# EAGLE library part ECOG1K (library untitled)
eCOG1k microcrontroller van Cyan 16 bit
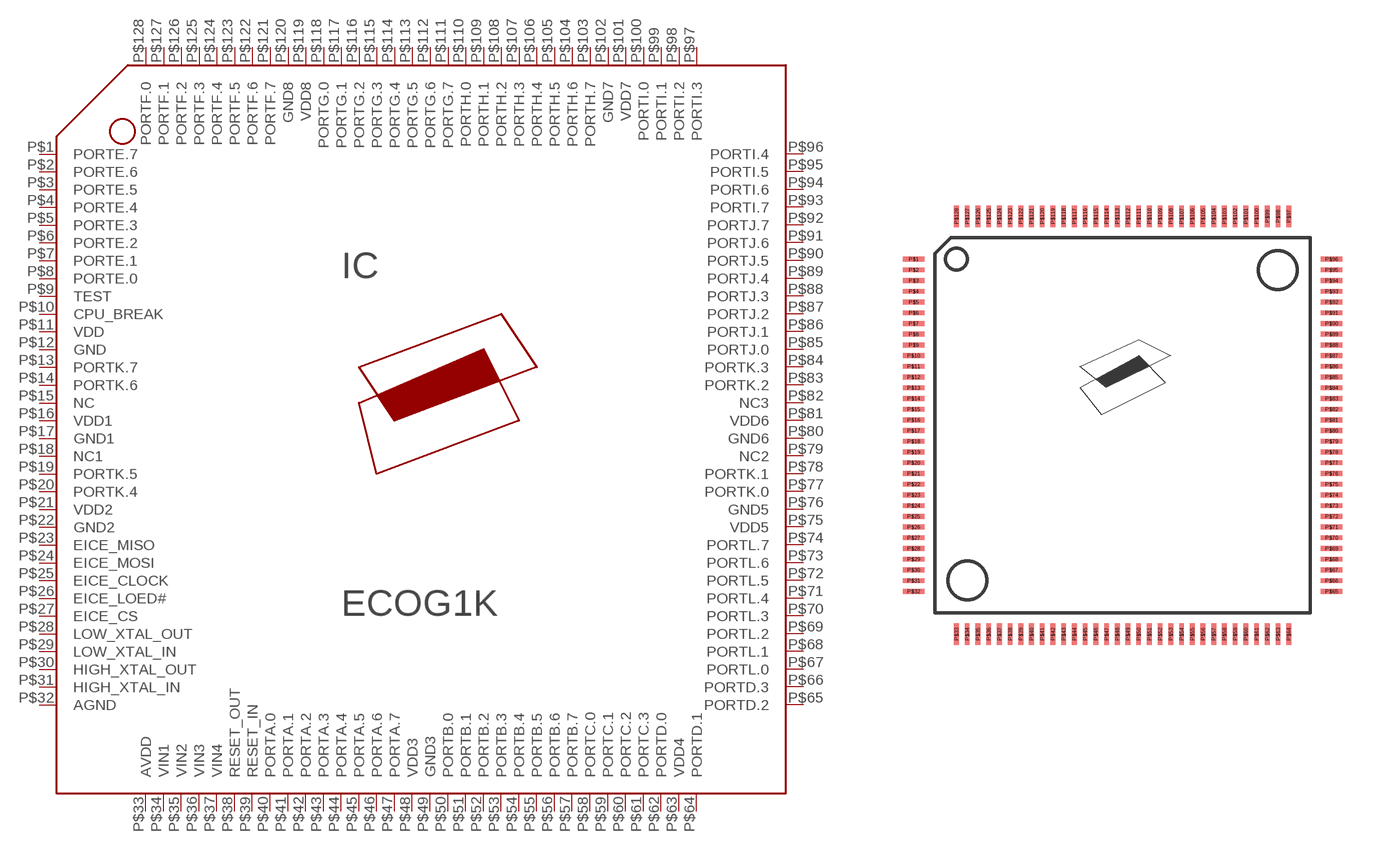
[diagram p0: symbol with the pads of ECOG1K; footprint ECOG1K]

Designator prefix IC

## ECOG1K  [ECOG1K]
P$1  PORTE.7
P$2  PORTE.6
P$3  PORTE.5
P$4  PORTE.4
P$5  PORTE.3
P$6  PORTE.2
P$7  PORTE.1
P$8  PORTE.0
P$9  TEST
P$10  CPU_BREAK
P$11  VDD
P$12  GND
P$13  PORTK.7
P$14  PORTK.6
P$15  NC
P$16  VDD1
P$17  GND1
P$18  NC1
P$19  PORTK.5
P$20  PORTK.4
P$21  VDD2
P$22  GND2
P$23  EICE_MISO
P$24  EICE_MOSI
P$25  EICE_CLOCK
P$26  EICE_LOED#
P$27  EICE_CS
P$28  LOW_XTAL_OUT
P$29  LOW_XTAL_IN
P$30  HIGH_XTAL_OUT
P$31  HIGH_XTAL_IN
P$32  AGND
P$33  AVDD
P$34  VIN1
P$35  VIN2
P$36  VIN3
P$37  VIN4
P$38  RESET_OUT
P$39  RESET_IN
P$40  PORTA.0
P$41  PORTA.1
P$42  PORTA.2
P$43  PORTA.3
P$44  PORTA.4
P$45  PORTA.5
P$46  PORTA.6
P$47  PORTA.7
P$48  VDD3
P$49  GND3
P$50  PORTB.0
P$51  PORTB.1
P$52  PORTB.2
P$53  PORTB.3
P$54  PORTB.4
P$55  PORTB.5
P$56  PORTB.6
P$57  PORTB.7
P$58  PORTC.0
P$59  PORTC.1
P$60  PORTC.2
P$61  PORTC.3
P$62  PORTD.0
P$63  VDD4
P$64  PORTD.1
P$65  PORTD.2
P$66  PORTD.3
P$67  PORTL.0
P$68  PORTL.1
P$69  PORTL.2
P$70  PORTL.3
P$71  PORTL.4
P$72  PORTL.5
P$73  PORTL.6
P$74  PORTL.7
P$75  VDD5
P$76  GND5
P$77  PORTK.0
P$78  PORTK.1
P$79  NC2
P$80  GND6
P$81  VDD6
P$82  NC3
P$83  PORTK.2
P$84  PORTK.3
P$85  PORTJ.0
P$86  PORTJ.1
P$87  PORTJ.2
P$88  PORTJ.3
P$89  PORTJ.4
P$90  PORTJ.5
P$91  PORTJ.6
P$92  PORTJ.7
P$93  PORTI.7
P$94  PORTI.6
P$95  PORTI.5
P$96  PORTI.4
P$97  PORTI.3
P$98  PORTI.2
P$99  PORTI.1
P$100  PORTI.0
P$101  VDD7
P$102  GND7
P$103  PORTH.7
P$104  PORTH.6
P$105  PORTH.5
P$106  PORTH.4
P$107  PORTH.3
P$108  PORTH.2
P$109  PORTH.1
P$110  PORTH.0
P$111  PORTG.7
P$112  PORTG.6
P$113  PORTG.5
P$114  PORTG.4
P$115  PORTG.3
P$116  PORTG.2
P$117  PORTG.1
P$118  PORTG.0
P$119  VDD8
P$120  GND8
P$121  PORTF.7
P$122  PORTF.6
P$123  PORTF.5
P$124  PORTF.4
P$125  PORTF.3
P$126  PORTF.2
P$127  PORTF.1
P$128  PORTF.0

## Footprint ECOG1K (pad centres in mm)
128 pins LQFP 0.4mm pitch 14x14 body 16x16 at pin edge
smd 0.8 x 0.18: P$1 -0.8,13.2; P$2 -0.8,12.8; P$3 -0.8,12.4; P$4 -0.8,12; P$5 -0.8,11.6; P$6 -0.8,11.2; P$7 -0.8,10.8; P$8 -0.8,10.4; P$9 -0.8,10; P$10 -0.8,9.6; P$11 -0.8,9.2; P$12 -0.8,8.8; P$13 -0.8,8.4; P$14 -0.8,8; P$15 -0.8,7.6; P$16 -0.8,7.2; P$17 -0.8,6.8; P$18 -0.8,6.4; P$19 -0.8,6; P$20 -0.8,5.6; P$21 -0.8,5.2; P$22 -0.8,4.8; P$23 -0.8,4.4; P$24 -0.8,4; P$25 -0.8,3.6; P$26 -0.8,3.2; P$27 -0.8,2.8; P$28 -0.8,2.4; P$29 -0.8,2; P$30 -0.8,1.6; P$31 -0.8,1.2; P$32 -0.8,0.8; P$65 14.8,0.8; P$66 14.8,1.2; P$67 14.8,1.6; P$68 14.8,2; P$69 14.8,2.4; P$70 14.8,2.8; P$71 14.8,3.2; P$72 14.8,3.6; P$73 14.8,4; P$74 14.8,4.4; P$75 14.8,4.8; P$76 14.8,5.2; P$77 14.8,5.6; P$78 14.8,6; P$79 14.8,6.4; P$80 14.8,6.8; P$81 14.8,7.2; P$82 14.8,7.6; P$83 14.8,8; P$84 14.8,8.4; P$85 14.8,8.8; P$86 14.8,9.2; P$87 14.8,9.6; P$88 14.8,10; P$89 14.8,10.4; P$90 14.8,10.8; P$91 14.8,11.2; P$92 14.8,11.6; P$93 14.8,12; P$94 14.8,12.4; P$95 14.8,12.8; P$96 14.8,13.2
smd 0.18 x 0.8: P$33 0.8,-0.8; P$34 1.2,-0.8; P$35 1.6,-0.8; P$36 2,-0.8; P$37 2.4,-0.8; P$38 2.8,-0.8; P$39 3.2,-0.8; P$40 3.6,-0.8; P$41 4,-0.8; P$42 4.4,-0.8; P$43 4.8,-0.8; P$44 5.2,-0.8; P$45 5.6,-0.8; P$46 6,-0.8; P$47 6.4,-0.8; P$48 6.8,-0.8; P$49 7.2,-0.8; P$50 7.6,-0.8; P$51 8,-0.8; P$52 8.4,-0.8; P$53 8.8,-0.8; P$54 9.2,-0.8; P$55 9.6,-0.8; P$56 10,-0.8; P$57 10.4,-0.8; P$58 10.8,-0.8; P$59 11.2,-0.8; P$60 11.6,-0.8; P$61 12,-0.8; P$62 12.4,-0.8; P$63 12.8,-0.8; P$64 13.2,-0.8; P$97 13.2,14.8; P$98 12.8,14.8; P$99 12.4,14.8; P$100 12,14.8; P$101 11.6,14.8; P$102 11.2,14.8; P$103 10.8,14.8; P$104 10.4,14.8; P$105 10,14.8; P$106 9.6,14.8; P$107 9.2,14.8; P$108 8.8,14.8; P$109 8.4,14.8; P$110 8,14.8; P$111 7.6,14.8; P$112 7.2,14.8; P$113 6.8,14.8; P$114 6.4,14.8; P$115 6,14.8; P$116 5.6,14.8; P$117 5.2,14.8; P$118 4.8,14.8; P$119 4.4,14.8; P$120 4,14.8; P$121 3.6,14.8; P$122 3.2,14.8; P$123 2.8,14.8; P$124 2.4,14.8; P$125 2,14.8; P$126 1.6,14.8; P$127 1.2,14.8; P$128 0.8,14.8